# EAGLE library part MICROCLASP_22POS (library Victor)
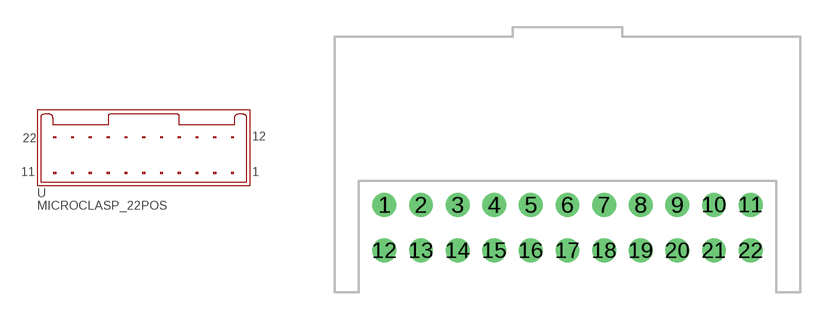
[diagram p5: symbol with the pads of MICROCLASP_22POS; footprint MICROCLASP_22POS]

Designator prefix -

## MICROCLASP_22POS  [MICROCLASP_22POS]
1  1
2  2
3  3
4  4
5  5
6  6
7  7
8  8
9  9
10  10
11  11
12  12
13  13
14  14
15  15
16  16
17  17
18  18
19  19
20  20
21  21
22  22

## Footprint MICROCLASP_22POS (pad centres in mm)
drill 0.8 round: 1 -10,0; 2 -8,0; 3 -6,0; 4 -4,0; 5 -2,0; 6 0,0; 7 2,0; 8 4,0; 9 6,0; 10 8,0; 11 10,0; 12 -10,-2.5; 13 -8,-2.5; 14 -6,-2.5; 15 -4,-2.5; 16 -2,-2.5; 17 0,-2.5; 18 2,-2.5; 19 4,-2.5; 20 6,-2.5; 21 8,-2.5; 22 10,-2.5